# Altium integrated library USB4515-GF-A_REVA.IntLib: 1 symbol
Pins are listed as number, name and electrical type; pins without a type are passive.

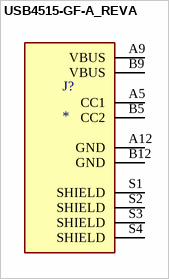
[diagram p0: symbol USB4515-GF-A_REVA]

## USB4515-GF-A_REVA
designator J?
Type C USB Charging Connector; MF: Global Connector Technology; MP: USB4515-GF-A; SnapEDA_Link: https://www.snapeda.com/parts/USB4515-GF-A/Global+Connector+Technology/view-part/?ref=snap; Package: None; Check_prices: https://www.snapeda.com/parts/USB4515-GF-A/Global+Connector+Technology/view-part/?ref=eda; Value: *; Digi-Key_Part_Number: 2073-USB4515-GF-ATR-ND
footprint GCT_USB4515-GF-A_REVA
pins: A5 CC1, A9 VBUS (power), A12 GND (power), B5 CC2, B9 VBUS (power), B12 GND (power), S1 SHIELD (power), S2 SHIELD (power), S3 SHIELD (power), S4 SHIELD (power)